# Altium footprint library conics_pcb_alt.PcbLib: 49 footprints (part 3 of 4)
Each footprint in its own frame and in the unit in brackets; x right, y up, seen from the top. Pads: shape width x height; smd on the part's side, far side on the other; paste and mask are expansions set on the pad; w line width, h text height; cw(c..) or ccw(c..) is an arc to the next point about the centre after c.
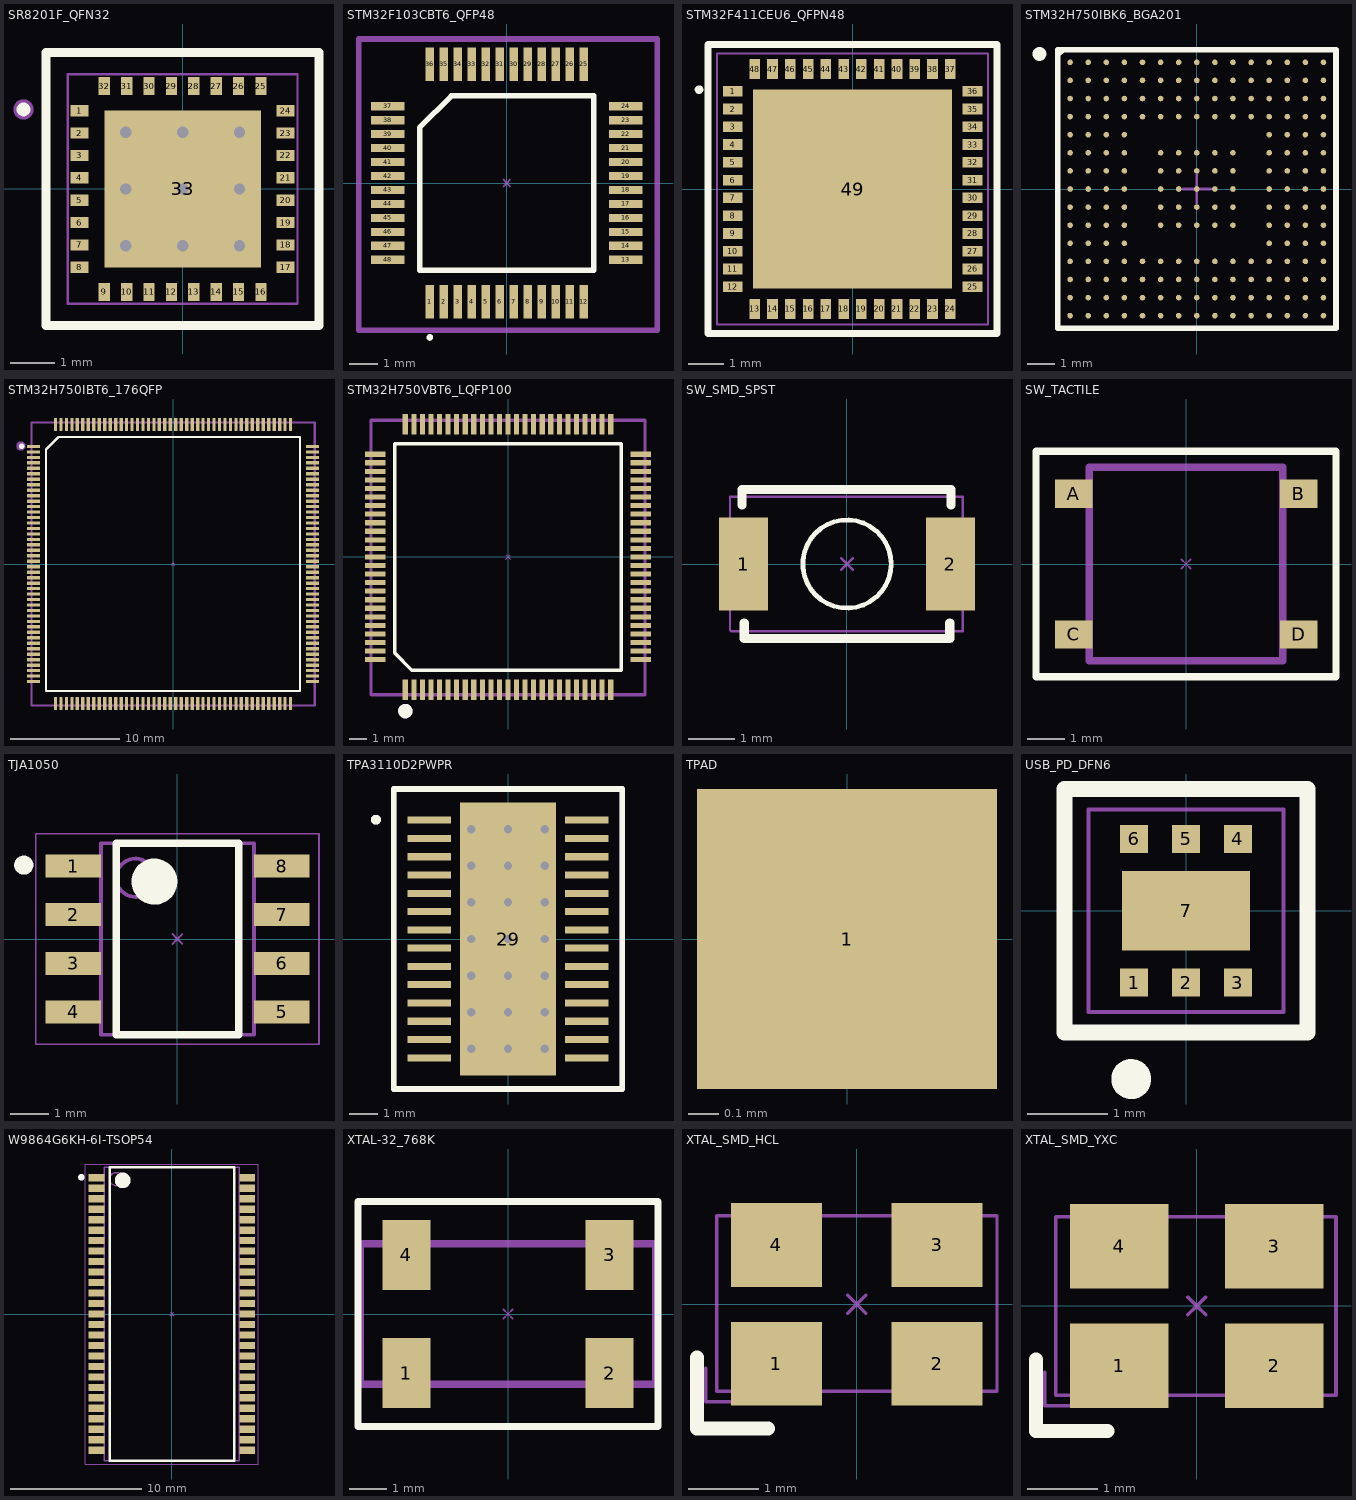
[diagram p2: the footprints below, top view; thin cyan lines are the x and y axes]

## SR8201F_QFN32 [mm]
pads (33):
  rect 0.4x0.25 smd: 1(-2.3,1.75) 2(-2.3,1.25) 3(-2.3,0.75) 4(-2.3,0.25) 5(-2.3,-0.25) 6(-2.3,-0.75) 7(-2.3,-1.25) 8(-2.3,-1.75) 17(2.3,-1.75) 18(2.3,-1.25) 19(2.3,-0.75) 20(2.3,-0.25) 21(2.3,0.25) 22(2.3,0.75) 23(2.3,1.25) 24(2.3,1.75)
  rect 0.25x0.4 smd: 9(-1.75,-2.3) 10(-1.25,-2.3) 11(-0.75,-2.3) 12(-0.25,-2.3) 13(0.25,-2.3) 14(0.75,-2.3) 15(1.25,-2.3) 16(1.75,-2.3) 25(1.75,2.3) 26(1.25,2.3) 27(0.75,2.3) 28(0.25,2.3) 29(-0.25,2.3) 30(-0.75,2.3) 31(-1.25,2.3) 32(-1.75,2.3)
  rect 3.5x3.5 smd: 33(0,0)
via -1.27,1.27 diameter 0.66 hole 0.254
via 1.27,-1.27 diameter 0.66 hole 0.254
via 0,-1.27 diameter 0.66 hole 0.254
via -1.27,-1.27 diameter 0.66 hole 0.254
via -1.27,0 diameter 0.66 hole 0.254
via 0,0 diameter 0.66 hole 0.254
via 1.27,0 diameter 0.66 hole 0.254
via 1.27,1.27 diameter 0.66 hole 0.254
via 0,1.27 diameter 0.66 hole 0.254
Top Overlay:
  circle w0.254: c-3.556,1.778 r0.025
  lines w0.2: -3.048,-3.048 3.048,-3.048 3.048,3.048 -3.048,3.048 -3.048,-3.048
Mechanical 15:
  circle w0.25: c-3.556,1.778 r0.1
  lines w0.05: -2.565,-2.565 2.565,-2.565 2.565,2.565 -2.565,2.565 -2.565,-2.565
  lines w0.051: -0.127,-0.127 0,0 ; -0.127,0.127 0,0 ; 0.127,-0.127 0,0 ; 0.127,0.127 0,0
  text "'.Designator'" at -2.337,0.051 h0.76
3D body "SR8201F_QFN32.step": height 0.8, standoff 0, extent -2.565,-2.56 2.555,2.56

## STM32F103CBT6_QFP48 [mm]
pads (48):
  rect 0.3x1.2 smd: 1(-2.75,-4.25) 2(-2.25,-4.25) 3(-1.75,-4.25) 4(-1.25,-4.25) 5(-0.75,-4.25) 6(-0.25,-4.25) 7(0.25,-4.25) 8(0.75,-4.25) 9(1.25,-4.25) 10(1.75,-4.25) 11(2.25,-4.25) 12(2.75,-4.25) 25(2.75,4.25) 26(2.25,4.25) 27(1.75,4.25) 28(1.25,4.25) 29(0.75,4.25) 30(0.25,4.25) 31(-0.25,4.25) 32(-0.75,4.25) 33(-1.25,4.25) 34(-1.75,4.25) 35(-2.25,4.25) 36(-2.75,4.25)
  rect 1.2x0.3 smd: 13(4.25,-2.75) 14(4.25,-2.25) 15(4.25,-1.75) 16(4.25,-1.25) 17(4.25,-0.75) 18(4.25,-0.25) 19(4.25,0.25) 20(4.25,0.75) 21(4.25,1.25) 22(4.25,1.75) 23(4.25,2.25) 24(4.25,2.75) 37(-4.25,2.75) 38(-4.25,2.25) 39(-4.25,1.75) 40(-4.25,1.25) 41(-4.25,0.75) 42(-4.25,0.25) 43(-4.25,-0.25) 44(-4.25,-0.75) 45(-4.25,-1.25) 46(-4.25,-1.75) 47(-4.25,-2.25) 48(-4.25,-2.75)
Top Overlay:
  circle w0.127: c-2.75,-5.52 r0.057
  lines w0.2: -3.115,-3.115 -3.115,1.98 -1.98,3.115 3.115,3.115 3.115,-3.115 -3.115,-3.115
Mechanical 15:
  circle w0.127: c-2.75,-5.52 r0.025
  lines w0.051: -0.127,-0.127 0,0 ; -0.127,0.127 0,0 ; 0.127,-0.127 0,0 ; 0.127,0.127 0,0
  lines w0.2: -5.29,-5.266 5.378,-5.266 5.378,5.148 -5.29,5.148 -5.29,-5.266
  text "'.Designator'" at -5.33,-1.075 h1.02
3D body "STM32F103CBT6-2024.step": height 1.51, standoff 0, extent -4.5,-4.496 4.5,4.504

## STM32F411CEU6_QFPN48 [mm]
pads (49):
  rect 0.55x0.3 smd: 1(-3.375,2.75) 2(-3.375,2.25) 3(-3.375,1.75) 4(-3.375,1.25) 5(-3.375,0.75) 6(-3.375,0.25) 7(-3.375,-0.25) 8(-3.375,-0.75) 9(-3.375,-1.25) 10(-3.375,-1.75) 11(-3.375,-2.25) 12(-3.375,-2.75) 25(3.375,-2.75) 26(3.375,-2.25) 27(3.375,-1.75) 28(3.375,-1.25) 29(3.375,-0.75) 30(3.375,-0.25) 31(3.375,0.25) 32(3.375,0.75) 33(3.375,1.25) 34(3.375,1.75) 35(3.375,2.25) 36(3.375,2.75)
  rect 0.3x0.55 smd: 13(-2.75,-3.375) 14(-2.25,-3.375) 15(-1.75,-3.375) 16(-1.25,-3.375) 17(-0.75,-3.375) 18(-0.25,-3.375) 19(0.25,-3.375) 20(0.75,-3.375) 21(1.25,-3.375) 22(1.75,-3.375) 23(2.25,-3.375) 24(2.75,-3.375) 37(2.75,3.375) 38(2.25,3.375) 39(1.75,3.375) 40(1.25,3.375) 41(0.75,3.375) 42(0.25,3.375) 43(-0.25,3.375) 44(-0.75,3.375) 45(-1.25,3.375) 46(-1.75,3.375) 47(-2.25,3.375) 48(-2.75,3.375)
  rect 5.6x5.6 smd: 49(0,0)
Top Overlay:
  circle w0.127: c-4.318,2.794 r0.057
  lines w0.2: -4.064,-4.064 4.064,-4.064 4.064,4.064 -4.064,4.064 -4.064,-4.064
Mechanical 15:
  circle w0.127: c-4.318,2.794 r0.025
  lines w0.051: -0.127,-0.127 0,0 ; -0.127,0.127 0,0 ; 0.127,-0.127 0,0 ; 0.127,0.127 0,0 ; -3.81,-3.81 3.81,-3.81 3.81,3.81 -3.81,3.81 -3.81,-3.81
  text "'.Designator'" at -2.54,-0.381 h0.76
3D body "STM32F411CEU6.stp": height 0.6, standoff 0, extent -3.55,-3.55 3.55,3.55

## STM32H750IBK6_BGA201 [mm] "BGA, 201-Leads, Body 10.00x10.00mmx0.60mm, Pitch 0.65mm"
height 0.6
pads (201):
  round 0.2 smd: A1(-4.55,4.55) A2(-3.9,4.55) A3(-3.25,4.55) A4(-2.6,4.55) A5(-1.95,4.55) A6(-1.3,4.55) A7(-0.65,4.55) A8(0,4.55) A9(0.65,4.55) A10(1.3,4.55) A11(1.95,4.55) A12(2.6,4.55) A13(3.25,4.55) A14(3.9,4.55) A15(4.55,4.55) B1(-4.55,3.9) B2(-3.9,3.9) B3(-3.25,3.9) B4(-2.6,3.9) B5(-1.95,3.9) B6(-1.3,3.9) B7(-0.65,3.9) B8(0,3.9) B9(0.65,3.9) B10(1.3,3.9) B11(1.95,3.9) B12(2.6,3.9) B13(3.25,3.9) B14(3.9,3.9) B15(4.55,3.9) C1(-4.55,3.25) C2(-3.9,3.25) C3(-3.25,3.25) C4(-2.6,3.25) C5(-1.95,3.25) C6(-1.3,3.25) C7(-0.65,3.25) C8(0,3.25) C9(0.65,3.25) C10(1.3,3.25) C11(1.95,3.25) C12(2.6,3.25) C13(3.25,3.25) C14(3.9,3.25) C15(4.55,3.25) D1(-4.55,2.6) D2(-3.9,2.6) D3(-3.25,2.6) D4(-2.6,2.6) D5(-1.95,2.6) D6(-1.3,2.6) D7(-0.65,2.6) D8(0,2.6) D9(0.65,2.6) D10(1.3,2.6) D11(1.95,2.6) D12(2.6,2.6) D13(3.25,2.6) D14(3.9,2.6) D15(4.55,2.6) E1(-4.55,1.95) E2(-3.9,1.95) E3(-3.25,1.95) E4(-2.6,1.95) E12(2.6,1.95) E13(3.25,1.95) E14(3.9,1.95) E15(4.55,1.95) F1(-4.55,1.3) F2(-3.9,1.3) F3(-3.25,1.3) F4(-2.6,1.3) F6(-1.3,1.3) F7(-0.65,1.3) F8(0,1.3) F9(0.65,1.3) F10(1.3,1.3) F12(2.6,1.3) F13(3.25,1.3) F14(3.9,1.3) F15(4.55,1.3) G1(-4.55,0.65) G2(-3.9,0.65) G3(-3.25,0.65) G4(-2.6,0.65) G6(-1.3,0.65) G7(-0.65,0.65) G8(0,0.65) G9(0.65,0.65) G10(1.3,0.65) G12(2.6,0.65) G13(3.25,0.65) G14(3.9,0.65) G15(4.55,0.65) H1(-4.55,0) H2(-3.9,0) H3(-3.25,0) H4(-2.6,0) H6(-1.3,0) H7(-0.65,0) H8(0,0) H9(0.65,0) H10(1.3,0) H12(2.6,0) H13(3.25,0) H14(3.9,0) H15(4.55,0) J1(-4.55,-0.65) J2(-3.9,-0.65) J3(-3.25,-0.65) J4(-2.6,-0.65) J6(-1.3,-0.65) J7(-0.65,-0.65) J8(0,-0.65) J9(0.65,-0.65) J10(1.3,-0.65) J12(2.6,-0.65) J13(3.25,-0.65) J14(3.9,-0.65) J15(4.55,-0.65) K1(-4.55,-1.3) K2(-3.9,-1.3) K3(-3.25,-1.3) K4(-2.6,-1.3) K6(-1.3,-1.3) K7(-0.65,-1.3) K8(0,-1.3) K9(0.65,-1.3) K10(1.3,-1.3) K12(2.6,-1.3) K13(3.25,-1.3) K14(3.9,-1.3) K15(4.55,-1.3) L1(-4.55,-1.95) L2(-3.9,-1.95) L3(-3.25,-1.95) L4(-2.6,-1.95) L12(2.6,-1.95) L13(3.25,-1.95) L14(3.9,-1.95) L15(4.55,-1.95) M1(-4.55,-2.6) M2(-3.9,-2.6) M3(-3.25,-2.6) M4(-2.6,-2.6) M5(-1.95,-2.6) M6(-1.3,-2.6) M7(-0.65,-2.6) M8(0,-2.6) M9(0.65,-2.6) M10(1.3,-2.6) M11(1.95,-2.6) M12(2.6,-2.6) M13(3.25,-2.6) M14(3.9,-2.6) M15(4.55,-2.6) N1(-4.55,-3.25) N2(-3.9,-3.25) N3(-3.25,-3.25) N4(-2.6,-3.25) N5(-1.95,-3.25) N6(-1.3,-3.25) N7(-0.65,-3.25) N8(0,-3.25) N9(0.65,-3.25) N10(1.3,-3.25) N11(1.95,-3.25) N12(2.6,-3.25) N13(3.25,-3.25) N14(3.9,-3.25) N15(4.55,-3.25) P1(-4.55,-3.9) P2(-3.9,-3.9) P3(-3.25,-3.9) P4(-2.6,-3.9) P5(-1.95,-3.9) P6(-1.3,-3.9) P7(-0.65,-3.9) P8(0,-3.9) P9(0.65,-3.9) P10(1.3,-3.9) P11(1.95,-3.9) P12(2.6,-3.9) P13(3.25,-3.9) P14(3.9,-3.9) P15(4.55,-3.9) R1(-4.55,-4.55) R2(-3.9,-4.55) R3(-3.25,-4.55) R4(-2.6,-4.55) R5(-1.95,-4.55) R6(-1.3,-4.55) R7(-0.65,-4.55) R8(0,-4.55) R9(0.65,-4.55) R10(1.3,-4.55) R11(1.95,-4.55) R12(2.6,-4.55) R13(3.25,-4.55) R14(3.9,-4.55) R15(4.55,-4.55)
Top Overlay:
  circle w0.25: c-5.65,4.85 r0.125
  region: -4.807,5 -5,4.807 -5,5
  lines w0.2: -5,4.807 -4.807,5 ; -5,-5 5,-5 5,5 -5,5 -5,-5
Mechanical 15:
  lines w0.1: -0.5,0 0.5,0 ; 0,-0.5 0,0.5 ; -5,-5 5,-5 5,5 -5,5 -5,-5
  text "'.Designator'" at -4.358,-0.296 h1.02
3D body "UFBGA176+25_STM32F429.step": height 0.45, standoff 0, extent -5,-5 5,5

## STM32H750IBT6_176QFP [mm]
pads (176):
  rect 1.2x0.3 smd: 1(-12.75,10.75) 2(-12.75,10.25) 3(-12.75,9.75) 4(-12.75,9.25) 5(-12.75,8.75) 6(-12.75,8.25) 7(-12.75,7.75) 8(-12.75,7.25) 9(-12.75,6.75) 10(-12.75,6.25) 11(-12.75,5.75) 12(-12.75,5.25) 13(-12.75,4.75) 14(-12.75,4.25) 15(-12.75,3.75) 16(-12.75,3.25) 17(-12.75,2.75) 18(-12.75,2.25) 19(-12.75,1.75) 20(-12.75,1.25) 21(-12.75,0.75) 22(-12.75,0.25) 23(-12.75,-0.25) 24(-12.75,-0.75) 25(-12.75,-1.25) 26(-12.75,-1.75) 27(-12.75,-2.25) 28(-12.75,-2.75) 29(-12.75,-3.25) 30(-12.75,-3.75) 31(-12.75,-4.25) 32(-12.75,-4.75) 33(-12.75,-5.25) 34(-12.75,-5.75) 35(-12.75,-6.25) 36(-12.75,-6.75) 37(-12.75,-7.25) 38(-12.75,-7.75) 39(-12.75,-8.25) 40(-12.75,-8.75) 41(-12.75,-9.25) 42(-12.75,-9.75) 43(-12.75,-10.25) 44(-12.75,-10.75) 89(12.75,-10.75) 90(12.75,-10.25) 91(12.75,-9.75) 92(12.75,-9.25) 93(12.75,-8.75) 94(12.75,-8.25) 95(12.75,-7.75) 96(12.75,-7.25) 97(12.75,-6.75) 98(12.75,-6.25) 99(12.75,-5.75) 100(12.75,-5.25) 101(12.75,-4.75) 102(12.75,-4.25) 103(12.75,-3.75) 104(12.75,-3.25) 105(12.75,-2.75) 106(12.75,-2.25) 107(12.75,-1.75) 108(12.75,-1.25) 109(12.75,-0.75) 110(12.75,-0.25) 111(12.75,0.25) 112(12.75,0.75) 113(12.75,1.25) 114(12.75,1.75) 115(12.75,2.25) 116(12.75,2.75) 117(12.75,3.25) 118(12.75,3.75) 119(12.75,4.25) 120(12.75,4.75) 121(12.75,5.25) 122(12.75,5.75) 123(12.75,6.25) 124(12.75,6.75) 125(12.75,7.25) 126(12.75,7.75) 127(12.75,8.25) 128(12.75,8.75) 129(12.75,9.25) 130(12.75,9.75) 131(12.75,10.25) 132(12.75,10.75)
  rect 0.3x1.2 smd: 45(-10.75,-12.75) 46(-10.25,-12.75) 47(-9.75,-12.75) 48(-9.25,-12.75) 49(-8.75,-12.75) 50(-8.25,-12.75) 51(-7.75,-12.75) 52(-7.25,-12.75) 53(-6.75,-12.75) 54(-6.25,-12.75) 55(-5.75,-12.75) 56(-5.25,-12.75) 57(-4.75,-12.75) 58(-4.25,-12.75) 59(-3.75,-12.75) 60(-3.25,-12.75) 61(-2.75,-12.75) 62(-2.25,-12.75) 63(-1.75,-12.75) 64(-1.25,-12.75) 65(-0.75,-12.75) 66(-0.25,-12.75) 67(0.25,-12.75) 68(0.75,-12.75) 69(1.25,-12.75) 70(1.75,-12.75) 71(2.25,-12.75) 72(2.75,-12.75) 73(3.25,-12.75) 74(3.75,-12.75) 75(4.25,-12.75) 76(4.75,-12.75) 77(5.25,-12.75) 78(5.75,-12.75) 79(6.25,-12.75) 80(6.75,-12.75) 81(7.25,-12.75) 82(7.75,-12.75) 83(8.25,-12.75) 84(8.75,-12.75) 85(9.25,-12.75) 86(9.75,-12.75) 87(10.25,-12.75) 88(10.75,-12.75) 133(10.75,12.75) 134(10.25,12.75) 135(9.75,12.75) 136(9.25,12.75) 137(8.75,12.75) 138(8.25,12.75) 139(7.75,12.75) 140(7.25,12.75) 141(6.75,12.75) 142(6.25,12.75) 143(5.75,12.75) 144(5.25,12.75) 145(4.75,12.75) 146(4.25,12.75) 147(3.75,12.75) 148(3.25,12.75) 149(2.75,12.75) 150(2.25,12.75) 151(1.75,12.75) 152(1.25,12.75) 153(0.75,12.75) 154(0.25,12.75) 155(-0.25,12.75) 156(-0.75,12.75) 157(-1.25,12.75) 158(-1.75,12.75) 159(-2.25,12.75) 160(-2.75,12.75) 161(-3.25,12.75) 162(-3.75,12.75) 163(-4.25,12.75) 164(-4.75,12.75) 165(-5.25,12.75) 166(-5.75,12.75) 167(-6.25,12.75) 168(-6.75,12.75) 169(-7.25,12.75) 170(-7.75,12.75) 171(-8.25,12.75) 172(-8.75,12.75) 173(-9.25,12.75) 174(-9.75,12.75) 175(-10.25,12.75) 176(-10.75,12.75)
Top Overlay:
  circle w0.25: c-13.843,10.77 r0.125
  lines w0.2: -11.615,-11.615 -11.615,10.48 -10.48,11.615 11.615,11.615 11.615,-11.615 -11.615,-11.615
Mechanical 15:
  circle w0.5: c-13.919,10.795 r0.17
  lines w0.051: -0.127,-0.127 0,0 ; -0.127,0.127 0,0 ; 0.127,-0.127 0,0 ; 0.127,0.127 0,0
  lines w0.2: -12.954,-12.954 -12.954,12.954 12.954,12.954 12.954,-12.954 4.572,-12.954 -12.065,-12.954 -12.954,-12.954
  text "'.Designator'" at -10.236,0.152 h0.76
3D body "STM32H750IBT6.STEP": height 1.6, standoff 0, extent -13,-13.005 13,12.995

## STM32H750VBT6_LQFP100 [mm]
pads (100):
  rect 0.3x1.2 smd: 1(-6,-7.75) 2(-5.5,-7.75) 3(-5,-7.75) 4(-4.5,-7.75) 5(-4,-7.75) 6(-3.5,-7.75) 7(-3,-7.75) 8(-2.5,-7.75) 9(-2,-7.75) 10(-1.5,-7.75) 11(-1,-7.75) 12(-0.5,-7.75) 13(0,-7.75) 14(0.5,-7.75) 15(1,-7.75) 16(1.5,-7.75) 17(2,-7.75) 18(2.5,-7.75) 19(3,-7.75) 20(3.5,-7.75) 21(4,-7.75) 22(4.5,-7.75) 23(5,-7.75) 24(5.5,-7.75) 25(6,-7.75) 51(6,7.75) 52(5.5,7.75) 53(5,7.75) 54(4.5,7.75) 55(4,7.75) 56(3.5,7.75) 57(3,7.75) 58(2.5,7.75) 59(2,7.75) 60(1.5,7.75) 61(1,7.75) 62(0.5,7.75) 63(0,7.75) 64(-0.5,7.75) 65(-1,7.75) 66(-1.5,7.75) 67(-2,7.75) 68(-2.5,7.75) 69(-3,7.75) 70(-3.5,7.75) 71(-4,7.75) 72(-4.5,7.75) 73(-5,7.75) 74(-5.5,7.75) 75(-6,7.75)
  rect 1.2x0.3 smd: 26(7.75,-6) 27(7.75,-5.5) 28(7.75,-5) 29(7.75,-4.5) 30(7.75,-4) 31(7.75,-3.5) 32(7.75,-3) 33(7.75,-2.5) 34(7.75,-2) 35(7.75,-1.5) 36(7.75,-1) 37(7.75,-0.5) 38(7.75,0) 39(7.75,0.5) 40(7.75,1) 41(7.75,1.5) 42(7.75,2) 43(7.75,2.5) 44(7.75,3) 45(7.75,3.5) 46(7.75,4) 47(7.75,4.5) 48(7.75,5) 49(7.75,5.5) 50(7.75,6) 76(-7.75,6) 77(-7.75,5.5) 78(-7.75,5) 79(-7.75,4.5) 80(-7.75,4) 81(-7.75,3.5) 82(-7.75,3) 83(-7.75,2.5) 84(-7.75,2) 85(-7.75,1.5) 86(-7.75,1) 87(-7.75,0.5) 88(-7.75,0) 89(-7.75,-0.5) 90(-7.75,-1) 91(-7.75,-1.5) 92(-7.75,-2) 93(-7.75,-2.5) 94(-7.75,-3) 95(-7.75,-3.5) 96(-7.75,-4) 97(-7.75,-4.5) 98(-7.75,-5) 99(-7.75,-5.5) 100(-7.75,-6)
Top Overlay:
  circle w0.5: c-5.994,-9.004 r0.17
  lines w0.2: -6.615,6.601 -6.615,-5.611 -5.611,-6.615 6.615,-6.615 6.615,6.615 -6.615,6.615
Mechanical 15:
  circle w0.5: c-5.994,-9.004 r0.17
  lines w0.051: -0.127,-0.127 0,0 ; -0.127,0.127 0,0 ; 0.127,-0.127 0,0 ; 0.127,0.127 0,0
  lines w0.2: -8.001,-8.014 -8.001,7.988 8.001,7.988 8.001,-8.039 -7.976,-8.039 -8.001,-8.014
  text "'.Designator'" at -4.648,0.038 h0.76
3D body "STM32H750VBT6TR.STEP": height 1.6, standoff 0, extent -8,-8 8,8

## SW_SMD_SPST [mm]
pads (3):
  rect 1.05x2 smd: 1(-2.225,0) 2(2.225,0)
  round 0 on Top Overlay: H(0,0)
Top Overlay:
  circle w0.102: c0,0 r0.949
  lines w0.2: -2.259,1.27 -2.259,1.6 ; -2.243,1.6 2.235,1.6 2.235,1.27 ; -2.208,-1.6 -2.208,-1.27 ; -2.15,-1.6 2.21,-1.6 2.21,-1.27
Mechanical 15:
  lines w0.05: -2.515,-1.422 -2.515,1.448 2.489,1.448 2.489,-1.448 1.727,-1.448 -2.489,-1.448 -2.515,-1.422
  lines w0.051: -0.127,-0.127 0,0 ; -0.127,0.127 0,0 ; 0.127,-0.127 0,0 ; 0.127,0.127 0,0
  text "'.Designator'" at -2.362,-0.127 h0.76
3D body "switch_button_SPST.step": height 2, standoff -0.01, extent -2.5,-1.45 2.5,1.451

## SW_TACTILE [mm]
pads (4):
  rect 1x0.75 smd: A(-3,1.875) B(3,1.875) C(-3,-1.875) D(3,-1.875)
Top Overlay:
  lines w0.2: -4,-3 4,-3 4,3 -4,3 -4,-3
Mechanical 15:
  lines w0.051: -0.127,-0.127 0,0 ; -0.127,0.127 0,0 ; 0.127,-0.127 0,0 ; 0.127,0.127 0,0
  lines w0.2: -2.575,-2.575 2.575,-2.575 2.575,2.575 -2.575,2.575 -2.575,-2.575
  text "'.Designator'" at -2.174,-0.474 h1.02
3D body "TACTILE_SW.step": height 1.4, standoff 0, extent -3.25,-2.55 3.25,2.55

## TJA1050 [mm]
height 1.75
pads (8):
  rect 1.45x0.6 smd: 1(-2.725,1.905) 2(-2.725,0.635) 3(-2.725,-0.635) 4(-2.725,-1.905) 5(2.725,-1.905) 6(2.725,-0.635) 7(2.725,0.635) 8(2.725,1.905)
Top Overlay:
  circle w0.6: c-0.6,1.5 r0.3
  circle w0.25: c-4.013,1.93 r0.125
  lines w0.2: -1.6,-2.5 1.6,-2.5 1.6,2.5 -1.6,2.5 -1.6,-2.5
Mechanical 13:
  circle w0.1: c-1.1,1.6 r0.5
  lines w0.1: -2,-2.5 2,-2.5 2,2.5 -2,2.5 -2,-2.5
Mechanical 15:
  circle w0.254: c-4.013,1.93 r0.025
  lines w0.05: -3.7,-2.75 -3.7,2.75 3.7,2.75 3.7,-2.75 -3.7,-2.75
  lines w0.051: -0.127,-0.127 0,0 ; -0.127,0.127 0,0 ; 0.127,-0.127 0,0 ; 0.127,0.127 0,0
  text "'.Designator'" at -4.089,-0.178 h0.76
3D body "TJA1050_.step": height 1.75, standoff 0, extent -3,-2.5 3,2.5

## TPA3110D2PWPR [mm]
pads (29):
  rect 1.55x0.25 smd: 1(-2.8,4.225) 2(-2.8,3.575) 3(-2.8,2.925) 4(-2.8,2.275) 5(-2.8,1.625) 6(-2.8,0.975) 7(-2.8,0.325) 8(-2.8,-0.325) 9(-2.8,-0.975) 10(-2.8,-1.625) 11(-2.8,-2.275) 12(-2.8,-2.925) 13(-2.8,-3.575) 14(-2.8,-4.225) 15(2.8,-4.225) 16(2.8,-3.575) 17(2.8,-2.925) 18(2.8,-2.275) 19(2.8,-1.625) 20(2.8,-0.975) 21(2.8,-0.325) 22(2.8,0.325) 23(2.8,0.975) 24(2.8,1.625) 25(2.8,2.275) 26(2.8,2.925) 27(2.8,3.575) 28(2.8,4.225)
  rect 3.4x9.7 smd: 29(0,0)
via 1.3,-3.9 diameter 0.7 hole 0.3
via 1.3,-2.6 diameter 0.7 hole 0.3
via 1.3,-1.3 diameter 0.7 hole 0.3
via 1.3,0 diameter 0.7 hole 0.3
via 1.3,1.3 diameter 0.7 hole 0.3
via 1.3,2.6 diameter 0.7 hole 0.3
via 1.3,3.9 diameter 0.7 hole 0.3
via 0,3.9 diameter 0.7 hole 0.3
via 0,2.6 diameter 0.7 hole 0.3
via 0,1.3 diameter 0.7 hole 0.3
via 0,0 diameter 0.7 hole 0.3
via 0,-1.3 diameter 0.7 hole 0.3
via 0,-2.6 diameter 0.7 hole 0.3
via 0,-3.9 diameter 0.7 hole 0.3
via -1.3,3.9 diameter 0.7 hole 0.3
via -1.3,2.6 diameter 0.7 hole 0.3
via -1.3,1.3 diameter 0.7 hole 0.3
via -1.3,0 diameter 0.7 hole 0.3
via -1.3,-1.3 diameter 0.7 hole 0.3
via -1.3,-2.6 diameter 0.7 hole 0.3
via -1.3,-3.9 diameter 0.7 hole 0.3
Top Overlay:
  circle w0.2: c-4.699,4.242 r0.076
  lines w0.2: -4.064,-5.334 4.064,-5.334 4.064,5.334 -4.064,5.334 -4.064,-5.334
Mechanical 15:
  circle w0.2: c-4.699,4.242 r0.072
  lines w0.2: -4.064,-5.334 4.064,-5.334 4.064,5.334 -4.064,5.334 -4.064,-5.334
  text "'.Designator'" at -3.774,-0.22 h1.02
3D body "TPA3110D2PWPR.STEP": height 1.2, standoff 0, extent -3.2,-4.85 3.2,4.85

## TPAD [mm]
pads (1):
  rect 1x1 smd: 1(0,0)

## USB_PD_DFN6 [mm]
pads (7):
  rect 0.35x0.35 smd: 1(-0.65,-0.9) 2(0,-0.9) 3(0.65,-0.9) 4(0.65,0.9) 5(0,0.9) 6(-0.65,0.9)
  rect 1.6x1 smd: 7(0,0)
Top Overlay:
  circle w0.25: c-0.686,-2.108 r0.125
  lines w0.2: -1.524,-1.524 1.524,-1.524 1.524,1.524 -1.524,1.524 -1.524,-1.524
Mechanical 15:
  circle w0.254: c-0.686,-2.108 r0.025
  lines w0.051: -0.127,-0.127 0,0 ; -0.127,0.127 0,0 ; 0.127,-0.127 0,0 ; 0.127,0.127 0,0 ; -1.219,-1.27 1.219,-1.27 1.219,1.27 -1.219,1.27 -1.219,-1.27
  text "'.Designator'" at 0.229,-3.454 h0.76
3D body "DFN-6L.STEP": height 0.75, standoff 0, extent -1,-1.002 1,1.002

## W9864G6KH-6I-TSOP54 [mm] "TSOP, 54-Leads, Body 22.22x10.16mm, Pitch 0.80mm, IPC Medium Density"
height 1.2
pads (54):
  rect 1.2x0.55 smd: 1(-5.75,10.4) 2(-5.75,9.6) 3(-5.75,8.8) 4(-5.75,8) 5(-5.75,7.2) 6(-5.75,6.4) 7(-5.75,5.6) 8(-5.75,4.8) 9(-5.75,4) 10(-5.75,3.2) 11(-5.75,2.4) 12(-5.75,1.6) 13(-5.75,0.8) 14(-5.75,0) 15(-5.75,-0.8) 16(-5.75,-1.6) 17(-5.75,-2.4) 18(-5.75,-3.2) 19(-5.75,-4) 20(-5.75,-4.8) 21(-5.75,-5.6) 22(-5.75,-6.4) 23(-5.75,-7.2) 24(-5.75,-8) 25(-5.75,-8.8) 26(-5.75,-9.6) 27(-5.75,-10.4) 28(5.75,-10.4) 29(5.75,-9.6) 30(5.75,-8.8) 31(5.75,-8) 32(5.75,-7.2) 33(5.75,-6.4) 34(5.75,-5.6) 35(5.75,-4.8) 36(5.75,-4) 37(5.75,-3.2) 38(5.75,-2.4) 39(5.75,-1.6) 40(5.75,-0.8) 41(5.75,0) 42(5.75,0.8) 43(5.75,1.6) 44(5.75,2.4) 45(5.75,3.2) 46(5.75,4) 47(5.75,4.8) 48(5.75,5.6) 49(5.75,6.4) 50(5.75,7.2) 51(5.75,8) 52(5.75,8.8) 53(5.75,9.6) 54(5.75,10.4)
Top Overlay:
  circle w0.6: c-3.75,10.2 r0.3
  circle w0.25: c-6.909,10.439 r0.125
  lines w0.2: -4.75,-11.2 4.75,-11.2 4.75,11.2 -4.75,11.2 -4.75,-11.2
Mechanical 13:
  circle w0.1: c-4.25,10.3 r0.5
  lines w0.1: -5.15,-11.2 5.15,-11.2 5.15,11.2 -5.15,11.2 -5.15,-11.2
Mechanical 15:
  circle w0.254: c-6.909,10.439 r0.025
  lines w0.05: -6.6,-11.45 6.6,-11.45 6.6,11.45 -6.6,11.45 -6.6,-11.45
  lines w0.051: -0.127,-0.127 0,0 ; -0.127,0.127 0,0 ; 0.127,-0.127 0,0 ; 0.127,0.127 0,0
  text "'.Designator'" at -4.216,-0.305 h0.76
3D body "W9864G6KH-6I-TSOP54.step": height 1.2, standoff 0, extent -5.88,-11.2 5.88,11.2

## XTAL-32_768K [mm]
pads (4):
  rect 1.3x1.9 smd: 1(-2.75,-1.6) 2(2.75,-1.6) 3(2.75,1.6) 4(-2.75,1.6)
Top Overlay:
  lines w0.2: -4.064,-3.048 4.064,-3.048 4.064,3.048 -4.064,3.048 -4.064,-3.048
Mechanical 15:
  lines w0.051: -0.127,-0.127 0,0 ; -0.127,0.127 0,0 ; 0.127,-0.127 0,0 ; 0.127,0.127 0,0
  lines w0.2: -4,-1.9 4,-1.9 4,1.9 -4,1.9 -4,-1.9
  text "'.Designator'" at -3.52,-0.499 h1.02
3D body "XTAL_EPSON-32_768K.step": height 2.5, standoff 0, extent -4,-1.9 4,1.9

## XTAL_SMD_HCL [mm]
pads (4):
  rect 1.3x1.2 smd: 1(-1.15,-0.85) 2(1.15,-0.85) 3(1.15,0.85) 4(-1.15,0.85)
Top Overlay:
  lines w0.2: -2.286,-0.762 -2.286,-1.778 -1.27,-1.778
Mechanical 15:
  lines w0.05: -2.159,-0.914 -2.159,-1.397 -1.651,-1.397 ; -2.007,-1.245 2.007,-1.245 2.007,1.27 -2.007,1.27 -2.007,-1.245
  lines w0.051: -0.127,-0.127 0,0 ; -0.127,0.127 0,0 ; 0.127,-0.127 0,0 ; 0.127,0.127 0,0
  text "'.Designator'" at -1.88,-0.127 h0.76
3D body "Crystal_Oscillator4P.step": height 0.61, standoff 0, extent -1.6,-1.245 1.6,1.255

## XTAL_SMD_YXC [mm]
pads (4):
  rect 1.4x1.2 smd: 1(-1.1,-0.85) 2(1.1,-0.85) 3(1.1,0.85) 4(-1.1,0.85)
Top Overlay:
  lines w0.2: -2.286,-0.762 -2.286,-1.778 -1.27,-1.778
Mechanical 15:
  lines w0.05: -2.159,-0.94 -2.159,-1.422 -1.651,-1.422 ; -2.007,-1.27 1.981,-1.27 1.981,1.27 -1.6,1.27 -2.007,1.27 -2.007,-1.27
  lines w0.051: -0.127,-0.127 0,0 ; -0.127,0.127 0,0 ; 0.127,-0.127 0,0 ; 0.127,0.127 0,0
  text "'.Designator'" at -1.778,-0.432 h0.76
3D body "Crystal_Oscillator4P.step": height 0.61, standoff 0, extent -1.6,-1.275 1.6,1.225